# EAGLE library part MAX98357A (library FPV-Auto)
PART_NAME SHORT_DESCRIPTION Links Datasheet <https://datasheets.maximintegrated.com/en/ds/MAX98357A-MAX98357B.pdf> Product website <https://www.maximintegrated.com/en/products/analog/audio/MAX98357A.html>
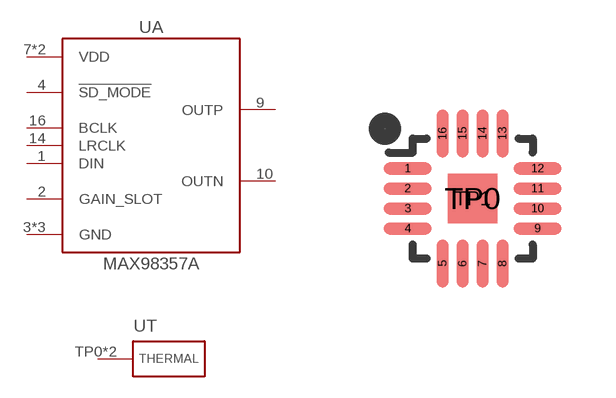
[diagram p4: symbol with the pads of 90-0031; footprint 90-0031]

Designator prefix U; gates A=MAX98357 T=THERMAL

## MAX98357A  [90-0031]
1  A:DIN  in
2  A:GAIN_SLOT  in
3  A:GND  pwr
4  A:!SD_MODE  in
7  A:VDD  pwr
8  A:VDD  pwr
9  A:OUTP  out
10  A:OUTN  out
11  A:GND  pwr
14  A:LRCLK  in
15  A:GND  pwr
16  A:BCLK  in
TP0  T:GND  pwr
TP1  T:GND  pwr

## Footprint 90-0031 (pad centres in mm)
smd 1.2 x 0.3: 1 -1.625,0.75; 2 -1.625,0.25; 3 -1.625,-0.25; 4 -1.625,-0.75; 9 1.625,-0.75; 10 1.625,-0.25; 11 1.625,0.25; 12 1.625,0.75
smd 0.3 x 1.2: 5 -0.75,-1.625; 6 -0.25,-1.625; 7 0.25,-1.625; 8 0.75,-1.625; 13 0.75,1.625; 14 0.25,1.625; 15 -0.25,1.625; 16 -0.75,1.625
smd 1.23 x 1.23: TP0 0,0
drill 0.3: TP1 0,0